# EAGLE library part GY-52 (library quad_parts)
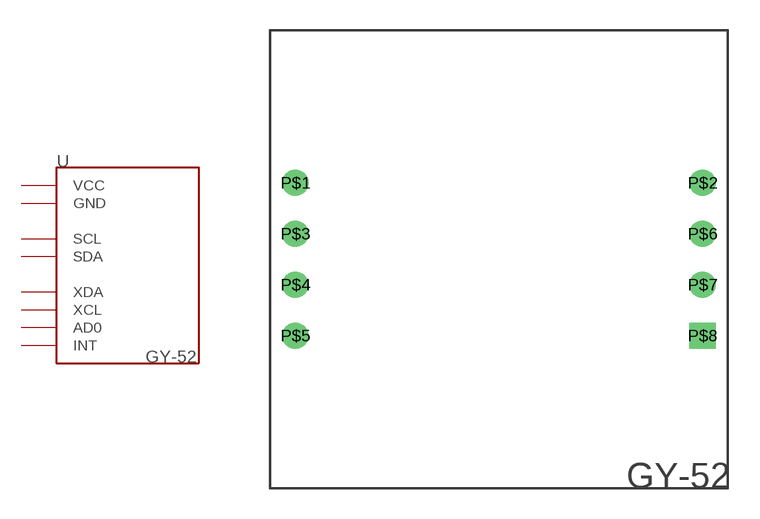
[diagram p3: symbol with the pads of PDIP-8; footprint PDIP-8]

Designator prefix -

## GY-52  [PDIP-8]
P$1  XDA
P$2  VCC
P$3  XCL
P$4  AD0
P$5  INT
P$6  SCL
P$7  SDA
P$8  GND

## Footprint PDIP-8 (pad centres in mm)
drill 0.8: P$1 -1.27,22.86; P$2 19.05,22.86; P$3 -1.27,20.32; P$4 -1.27,17.78; P$5 -1.27,15.24; P$6 19.05,20.32; P$7 19.05,17.78
drill 0.8 square: P$8 19.05,15.24